# EAGLE library part SD_CARD-BOARD (library p.peter-connectors)
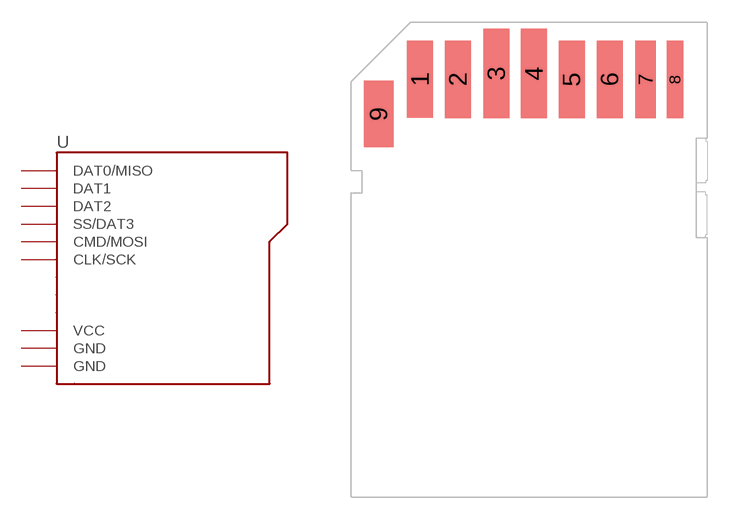
[diagram p3: symbol with the pads of SD-CARD-BOARD; footprint SD-CARD-BOARD]

Designator prefix -

## SD_CARD-BOARD  [SD-CARD-BOARD]
1  SS/DAT3
2  CMD/MOSI
3  GND
4  VCC
5  CLK/SCK
6  GND
7  DAT0/MISO
8  DAT1
9  DAT2

## Footprint SD-CARD-BOARD (pad centres in mm)
smd 1.75 x 5.2: 1 -7.345,13.163; 2 -4.795,13.153; 5 2.865,13.153; 6 5.43,13.153
smd 1.75 x 6: 3 -2.2,13.553; 4 0.33,13.553
smd 1.4 x 5.2: 7 7.83,13.153
smd 1.1 x 5.2: 8 9.83,13.153
smd 2 x 4.5: 9 -10.13,10.83